# EAGLE library part ATTINY25/45/85 (library airball)
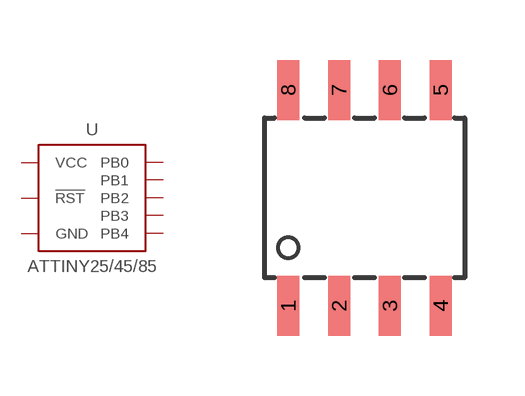
[diagram p13: symbol with the pads of SOIC8; footprint SOIC8]

Designator prefix U

## ATTINY25/45/85  [SOIC8]
1  !RST  in
2  PB3
3  PB4
4  GND  pwr
5  PB0
6  PB1
7  PB2
8  VCC  pwr

## Footprint SOIC8 (pad centres in mm)
smd 0.55 x 1.5: 1 -1.905,-2.7; 2 -0.635,-2.7; 3 0.635,-2.7; 4 1.905,-2.7; 5 1.905,2.7; 6 0.635,2.7; 7 -0.635,2.7; 8 -1.905,2.7